# Altium footprint library PCB - PASSIVES - NTC 0402_1005.PCBLIB: 1 footprints
Each footprint in its own frame and in the unit in brackets; x right, y up, seen from the top. Pads: shape width x height; smd on the part's side, far side on the other; paste and mask are expansions set on the pad; w line width, h text height; cw(c..) or ccw(c..) is an arc to the next point about the centre after c.
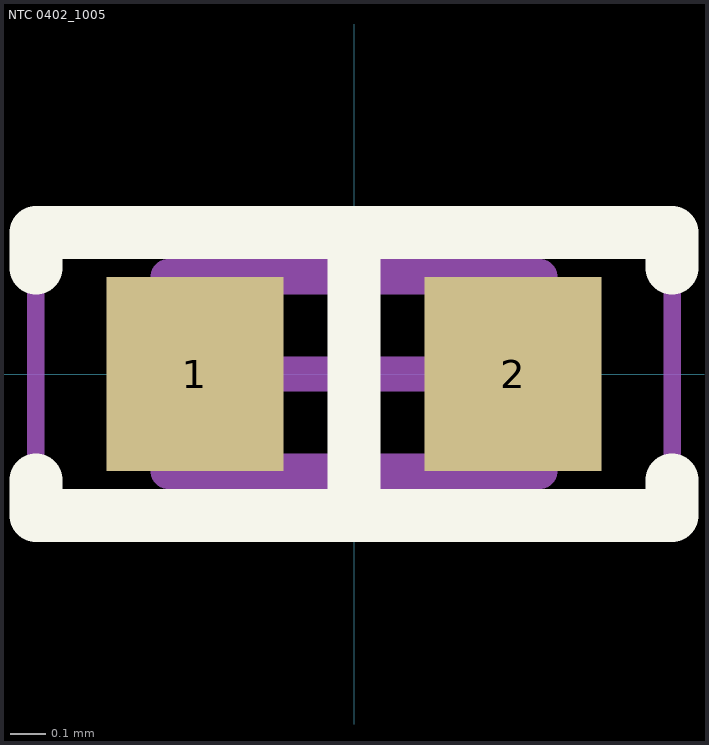
[diagram p0: the footprint, top view; thin cyan lines are the x and y axes]

## NTC 0402_1005 [mm] "Chip Thermistor, 2-Leads, Body 1.00x0.50mm, IPC Medium Density"
height 0.55
pads (2):
  rect 0.5x0.55 smd: 1(-0.45,0) 2(0.45,0)
Top Overlay:
  lines w0.15: -0.9,-0.3 -0.9,-0.4 0,-0.4 ; -0.9,0.3 -0.9,0.4 -0.2,0.4 0.9,0.4 0.9,0.3 ; 0,0.4 0,-0.4 ; 0.9,-0.3 0.9,-0.4 0,-0.4
Mechanical 13:
  lines w0.1: -0.525,-0.275 0.525,-0.275 0.525,0.275 -0.525,0.275 -0.525,-0.275
Mechanical 15:
  lines w0.05: -0.9,-0.45 0.9,-0.45 0.9,0.45 -0.9,0.45 -0.9,-0.45
  lines w0.1: -0.275,0 0.275,0 ; 0,-0.275 0,0.275
3D body "NTC 0402.STEP": height 0.52, standoff 0, extent -0.5,-0.262 0.5,0.262